# Altium footprint library Wurth_Elektronik_Passive_rev16a.PCBLIB: 810 footprints (part 49 of 51)
Each footprint in its own frame and in the unit in brackets; x right, y up, seen from the top. Pads: shape width x height; smd on the part's side, far side on the other; paste and mask are expansions set on the pad; w line width, h text height; cw(c..) or ccw(c..) is an arc to the next point about the centre after c.
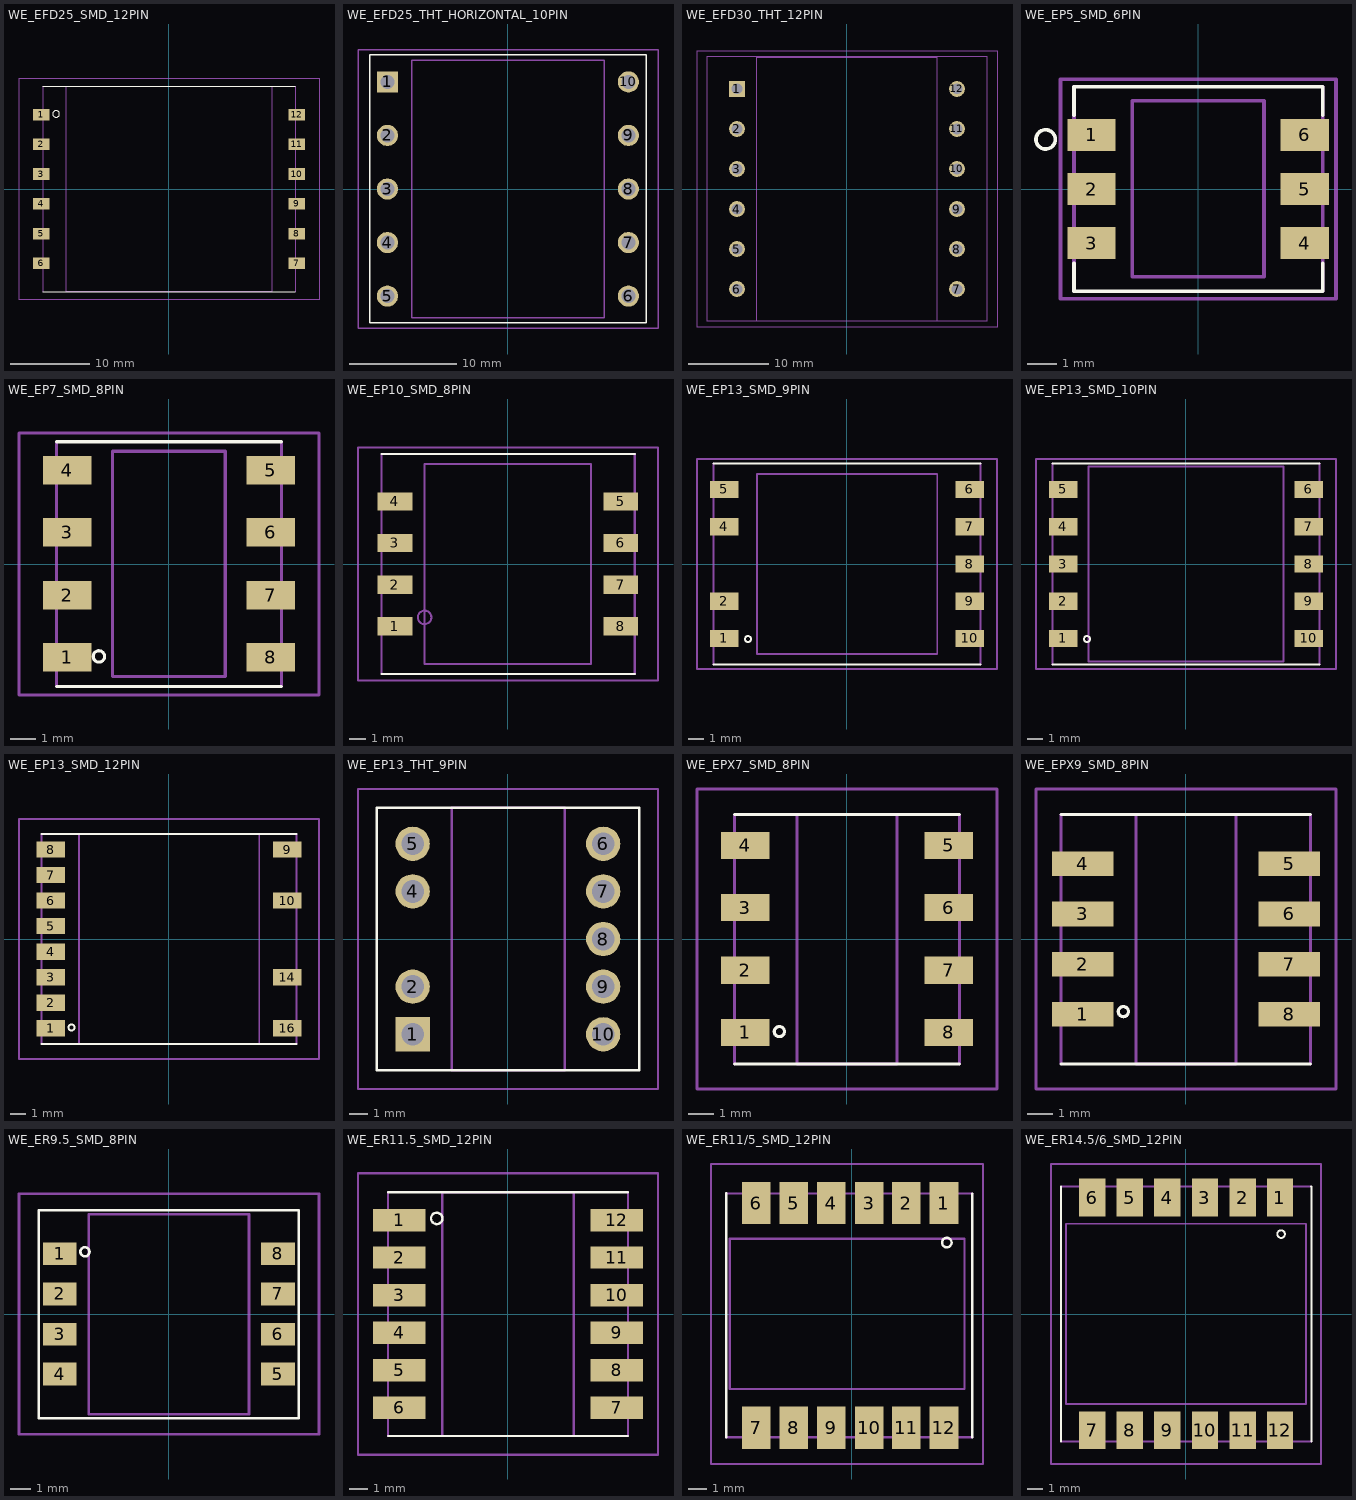
[diagram p48: the footprints below, top view; thin cyan lines are the x and y axes]

## WE_EFD25_SMD_12PIN [mil]
pads (12):
  rect 82x58 smd: 1(-636.02,371) 2(-636.02,223) 3(-636.02,75) 4(-636.02,-74.02) 5(-636.02,-222.05) 6(-636.02,-370.08) 7(637,-370.08) 8(637,-222.05) 9(637,-74.02) 10(637,75) 11(637,223) 12(637,371)
Top Overlay:
  circle w5: c-562.99,375 r17
  lines w5: -629.92,-511.81 630,-511.81 ; -629.92,512 630,512
Mechanical 2:
  text ">NAME" at -629.92,591 h77.5
Mechanical 4:
  text ">VALUE" at -629.92,-629.92 h77.5
Mechanical 10:
  lines w5: -511.81,-511.81 512,-511.81 512,512 -511.81,512 -511.81,-511.81
Mechanical 16:
  lines w5: -629.92,-511.81 -629.92,512 ; 630,-511.81 630,512
Mechanical 27:
  lines w5: -748.03,-551.18 749,-551.18 749,552 -748.03,552 -748.03,-551.18

## WE_EFD25_THT_HORIZONTAL_10PIN [mil]
pads (10):
  rect 78x78 hole 52: 1(-442.91,394)
  round 78 hole 52: 2(-442.91,197) 3(-442.91,0) 4(-442.91,-196.85) 5(-442.91,-393.7) 6(443,-393.7) 7(443,-196.85) 8(443,0) 9(443,197) 10(443,394)
Top Overlay:
  lines w5: -508.07,-492.13 509,-492.13 509,493 -508.07,493 -508.07,-492.13
Mechanical 2:
  text ">NAME" at -498.58,573 h77.5
Mechanical 4:
  text ">VALUE" at -498.58,-642.31 h77.5
Mechanical 10:
  lines w5: -354.33,-472.44 355,-472.44 355,473 -354.33,473 -354.33,-472.44
Mechanical 27:
  lines w5: -551.18,-511.81 552,-511.81 552,512 -551.18,512 -551.18,-511.81

## WE_EFD30_THT_12PIN [mil]
pads (12):
  rect 78x78 hole 52: 1(-541.34,493)
  round 78 hole 52: 2(-541.34,296) 3(-541.34,99) 4(-541.34,-98.43) 5(-541.34,-295.28) 6(-541.34,-492.13) 7(542,-492.13) 8(542,-295.28) 9(542,-98.43) 10(542,99) 11(542,296) 12(542,493)
Mechanical 2:
  text ">NAME" at -678.74,738 h77.5
Mechanical 4:
  lines w5: -691.34,-648.03 692,-648.03 692,652 -691.34,652 -691.34,-648.03
  text ">VALUE" at -658.66,-777.56 h77.5
Mechanical 10:
  lines w5: -442.91,-649.61 443,-649.61 443,650 -442.91,650 -442.91,-649.61
Mechanical 27:
  lines w5: -738.19,-679.13 739,-679.13 739,680 -738.19,680 -738.19,-679.13

## WE_EP5_SMD_6PIN [mil]
pads (6):
  rect 65x43 smd: 1(-143.5,73) 2(-143.5,0) 3(-143.5,-72.83) 4(144,-72.83) 5(144,0) 6(144,73)
Top Overlay:
  circle w5: c-205.51,67 r13
  lines w5: -167.32,-100 -167.32,-137.8 168,-137.8 168,-100 ; -167.32,100 -167.32,138 168,138 168,100
Mechanical 2:
  text ">NAME" at -149.61,182 h77.5
Mechanical 4:
  text ">VALUE" at -157.48,-236.22 h77.5
Mechanical 10:
  lines w5: -88.58,-118.11 89,-118.11 89,119 -88.58,119 -88.58,-118.11
Mechanical 16:
  lines w5: -167.32,-137.8 -167.32,138 ; 168,-137.8 168,138
Mechanical 27:
  lines w5: -185.43,-147.64 186,-147.64 186,148 -185.43,148 -185.43,-147.64

## WE_EP7_SMD_8PIN [mil]
pads (8):
  rect 76x45 smd: 1(-160.04,-147.05) 2(-160.04,-49.02) 3(-160.04,50) 4(-160.04,148) 5(161,148) 6(161,50) 7(161,-49.02) 8(161,-147.05)
Top Overlay:
  circle w5: c-110.24,-145.67 r9
  lines w5: -177.17,-192.91 178,-192.91 ; -177.17,193 178,193
Mechanical 2:
  text ">NAME" at -177.17,209 h77.5
Mechanical 4:
  text ">VALUE" at -173.23,-259.84 h77.5
Mechanical 10:
  lines w5: -88.58,-177.17 89,-177.17 89,178 -88.58,178 -88.58,-177.17
Mechanical 16:
  lines w5: -177.17,-192.91 -177.17,193 ; 178,-192.91 178,193
Mechanical 27:
  lines w5: -236.22,-206.69 237,-206.69 237,207 -236.22,207 -236.22,-206.69

## WE_EP10_SMD_8PIN [mil]
pads (8):
  rect 82x43 smd: 1(-266.93,-147.05) 2(-266.93,-49.02) 3(-266.93,50) 4(-266.93,148) 5(267,148) 6(267,50) 7(267,-49.02) 8(267,-147.05)
Top Overlay:
  lines w5: -299.21,-259.84 300,-259.84 ; -299.21,260 300,260
Mechanical 2:
  text ">NAME" at -286.22,328 h77.5
Mechanical 4:
  circle w5: c-196.85,-125.98 r16
  text ">VALUE" at -286.22,-336.22 h77.5
Mechanical 10:
  lines w5: -196.85,-236.22 197,-236.22 197,237 -196.85,237 -196.85,-236.22
Mechanical 16:
  lines w5: -299.21,-259.84 -299.21,260 ; 300,-259.84 300,260
Mechanical 27:
  lines w5: -354.33,-275.59 355,-275.59 355,276 -354.33,276 -354.33,-275.59

## WE_EP13_SMD_9PIN [mil]
pads (9):
  rect 75x45 smd: 1(-322.05,-195.28) 2(-322.05,-97.64) 4(-322.05,98) 5(-322.05,196) 6(323,196) 7(323,98) 8(323,0) 9(323,-97.64) 10(323,-195.28)
Top Overlay:
  circle w5: c-259.84,-196.85 r8
  lines w5: -350.39,-263.78 351,-263.78 ; -350.39,264 351,264
Mechanical 2:
  text ">NAME" at -346.46,305 h77.5
Mechanical 4:
  text ">VALUE" at -357.48,-357.48 h77.5
Mechanical 10:
  lines w5: -236.22,-236.22 237,-236.22 237,237 -236.22,237 -236.22,-236.22
Mechanical 16:
  lines w5: -350.39,-263.78 -350.39,264 ; 351,-263.78 351,264
Mechanical 27:
  lines w5: -393.7,-275.59 394,-275.59 394,276 -393.7,276 -393.7,-275.59

## WE_EP13_SMD_10PIN [mil]
pads (10):
  rect 75x45 smd: 1(-322.05,-195.28) 2(-322.05,-97.64) 3(-322.05,0) 4(-322.05,98) 5(-322.05,196) 6(323,196) 7(323,98) 8(323,0) 9(323,-97.64) 10(323,-195.28)
Top Overlay:
  circle w5: c-259.84,-196.85 r8
  lines w5: -350.39,-263.78 351,-263.78 ; -350.39,264 351,264
Mechanical 2:
  text ">NAME" at -366.14,296 h77.5
Mechanical 4:
  text ">VALUE" at -366.14,-362.2 h77.5
Mechanical 10:
  lines w5: -255.91,-255.91 256,-255.91 256,256 -255.91,256 -255.91,-255.91
Mechanical 16:
  lines w5: -350.39,-263.78 -350.39,264 ; 351,-263.78 351,264
Mechanical 27:
  lines w5: -393.7,-275.59 394,-275.59 394,276 -393.7,276 -393.7,-275.59

## WE_EP13_SMD_12PIN [mil]
pads (12):
  rect 75x43 smd: 1(-310.43,-234.25) 2(-310.43,-167.32) 3(-310.43,-100.39) 4(-310.43,-33.46) 5(-310.43,34) 6(-310.43,101) 7(-310.43,168) 8(-310.43,235) 9(311,235) 10(311,101) 14(311,-100.39) 16(311,-234.25)
Top Overlay:
  circle w5: c-255.91,-232.28 r8
  lines w5: -334.65,-275.59 335,-275.59 ; -334.65,276 335,276
Mechanical 2:
  text ">NAME" at -334.65,315 h77.5
Mechanical 4:
  text ">VALUE" at -314.96,-354.33 h77.5
Mechanical 10:
  lines w5: -236.22,-275.59 237,-275.59 237,276 -236.22,276 -236.22,-275.59
Mechanical 16:
  lines w5: -334.65,-275.59 -334.65,276 ; 335,-275.59 335,276
Mechanical 27:
  lines w5: -393.7,-314.96 394,-314.96 394,315 -393.7,315 -393.7,-314.96

## WE_EP13_THT_9PIN [mil]
pads (9):
  rect 72x72 hole 48: 1(-200,-200)
  round 72 hole 48: 2(-200,-100) 4(-200,100) 5(-200,200) 6(200,200) 7(200,100) 8(200,0) 9(200,-100) 10(200,-200)
Top Overlay:
  lines w5: -275.59,-275.59 276,-275.59 276,276 -275.59,276 -275.59,-275.59
Mechanical 2:
  text ">NAME" at -275.59,315 h77.5
Mechanical 4:
  text ">VALUE" at -275.59,-354.33 h77.5
Mechanical 10:
  lines w5: -118.11,-275.59 119,-275.59 119,276 -118.11,276 -118.11,-275.59
Mechanical 27:
  lines w5: -314.96,-314.96 315,-314.96 315,315 -314.96,315 -314.96,-314.96

## WE_EPX7_SMD_8PIN [mil]
pads (8):
  rect 76x43 smd: 1(-160.04,-147.05) 2(-160.04,-49.02) 3(-160.04,50) 4(-160.04,148) 5(161,148) 6(161,50) 7(161,-49.02) 8(161,-147.05)
Top Overlay:
  circle w5: c-106.3,-145.67 r8
  lines w5: -177.17,-196.85 178,-196.85 ; -177.17,197 178,197
Mechanical 2:
  text ">NAME" at -177.17,249 h77.5
Mechanical 4:
  text ">VALUE" at -177.17,-299.21 h77.5
Mechanical 10:
  lines w5: -78.74,-196.85 79,-196.85 79,197 -78.74,197 -78.74,-196.85
Mechanical 16:
  lines w5: -177.17,-196.85 -177.17,197 ; 178,-196.85 178,197
Mechanical 27:
  lines w5: -236.22,-236.22 237,-236.22 237,237 -236.22,237 -236.22,-236.22

## WE_EPX9_SMD_8PIN [mil]
pads (8):
  rect 97x39 smd: 1(-162.6,-118.11) 2(-162.6,-39.37) 3(-162.6,40) 4(-162.6,119) 5(163,119) 6(163,40) 7(163,-39.37) 8(163,-118.11)
Top Overlay:
  circle w5: c-98.43,-114.17 r8
  lines w5: -196.85,-196.85 197,-196.85 ; -196.85,197 197,197
Mechanical 2:
  text ">NAME" at -187.8,249 h77.5
Mechanical 4:
  text ">VALUE" at -187.8,-310.63 h77.5
Mechanical 10:
  lines w5: -78.74,-196.85 79,-196.85 79,197 -78.74,197 -78.74,-196.85
Mechanical 16:
  lines w5: -196.85,-196.85 -196.85,197 ; 197,-196.85 197,197
Mechanical 27:
  lines w5: -236.22,-236.22 237,-236.22 237,237 -236.22,237 -236.22,-236.22

## WE_ER9.5_SMD_8PIN [mil]
pads (8):
  rect 67x45 smd: 1(-214.96,119) 2(-214.96,40) 3(-214.96,-39.37) 4(-214.96,-118.11) 5(215,-118.11) 6(215,-39.37) 7(215,40) 8(215,119)
Top Overlay:
  circle w5: c-165.35,123 r9
  lines w5: -255.91,-204.72 256,-204.72 256,205 -255.91,205 -255.91,-204.72
Mechanical 2:
  text ">NAME" at -236.22,256 h77.5
Mechanical 4:
  text ">VALUE" at -236.22,-314.96 h77.5
Mechanical 10:
  lines w5: -157.48,-196.85 158,-196.85 158,197 -157.48,197 -157.48,-196.85
Mechanical 27:
  lines w5: -295.28,-236.22 296,-236.22 296,237 -295.28,237 -295.28,-236.22

## WE_ER11.5_SMD_12PIN [mil]
pads (12):
  rect 110x47 smd: 1(-227.95,197) 2(-227.95,119) 3(-227.95,40) 4(-227.95,-39.37) 5(-227.95,-118.11) 6(-227.95,-196.85) 7(228,-196.85) 8(228,-118.11) 9(228,-39.37) 10(228,40) 11(228,119) 12(228,197)
Top Overlay:
  circle w5: c-149.61,201 r12
  lines w5: -251.97,-255.91 252,-255.91 ; -251.97,256 252,256
Mechanical 2:
  text ">NAME" at -255.91,296 h77.5
Mechanical 4:
  text ">VALUE" at -255.91,-354.33 h77.5
Mechanical 10:
  lines w5: -137.8,-255.91 138,-255.91 138,256 -137.8,256 -137.8,-255.91
Mechanical 16:
  lines w5: -251.97,-255.91 -251.97,256 ; 252,-255.91 252,256
Mechanical 27:
  lines w5: -314.96,-295.28 315,-295.28 315,296 -314.96,296 -314.96,-295.28

## WE_ER11/5_SMD_12PIN [mil]
pads (12):
  rect 60x89 smd: 1(194,233) 2(115,233) 3(37,233) 4(-42.52,233) 5(-121.26,233) 6(-200,233) 7(-200,-238.98) 8(-121.26,-238.98) 9(-42.52,-238.98) 10(37,-238.98) 11(115,-238.98) 12(194,-238.98)
Top Overlay:
  circle w5: c200,150 r10
  lines w5: -262.99,-259.06 -262.99,254 ; 253,-259.06 253,253
Mechanical 2:
  text ">NAME" at -322.83,-249.21 h77.5
Mechanical 4:
  text ">VALUE" at 367,-250 h77.5
Mechanical 10:
  lines w5: -255.91,-157.48 237,-157.48 237,158 -255.91,158 -255.91,-157.48
Mechanical 16:
  lines w5: -262.99,-259.06 253,-259.06 ; -262.99,253 253,253
Mechanical 27:
  lines w5: -295.28,-314.96 276,-314.96 276,315 -295.28,315 -295.28,-314.96

## WE_ER14.5/6_SMD_12PIN [mil]
pads (12):
  rect 69x99 smd: 1(247,306) 2(149,306) 3(50,306) 4(-48.82,306) 5(-147.24,306) 6(-245.67,306) 7(-245.67,-305.12) 8(-147.24,-305.12) 9(-48.82,-305.12) 10(50,-305.12) 11(149,-305.12) 12(247,-305.12)
Top Overlay:
  circle w5: c250,210 r10
  lines w5: -327.56,-334.65 -327.56,335 ; 328,335 330,335 330,-334.65
Mechanical 2:
  text ">NAME" at -370.47,-314.57 h77.5
Mechanical 4:
  text ">VALUE" at 417,-319.69 h77.5
Mechanical 10:
  lines w5: -314.96,-236.22 315,-236.22 315,237 -314.96,237 -314.96,-236.22
Mechanical 16:
  lines w5: -327.56,-334.65 330,-334.65 ; -327.56,335 328,335
Mechanical 27:
  lines w5: -354.33,-393.7 355,-393.7 355,394 -354.33,394 -354.33,-393.7